# Altium footprint library PinHeaderMale.PcbLib: 7 footprints
Each footprint in its own frame and in the unit in brackets; x right, y up, seen from the top. Pads: shape width x height; smd on the part's side, far side on the other; paste and mask are expansions set on the pad; w line width, h text height; cw(c..) or ccw(c..) is an arc to the next point about the centre after c.
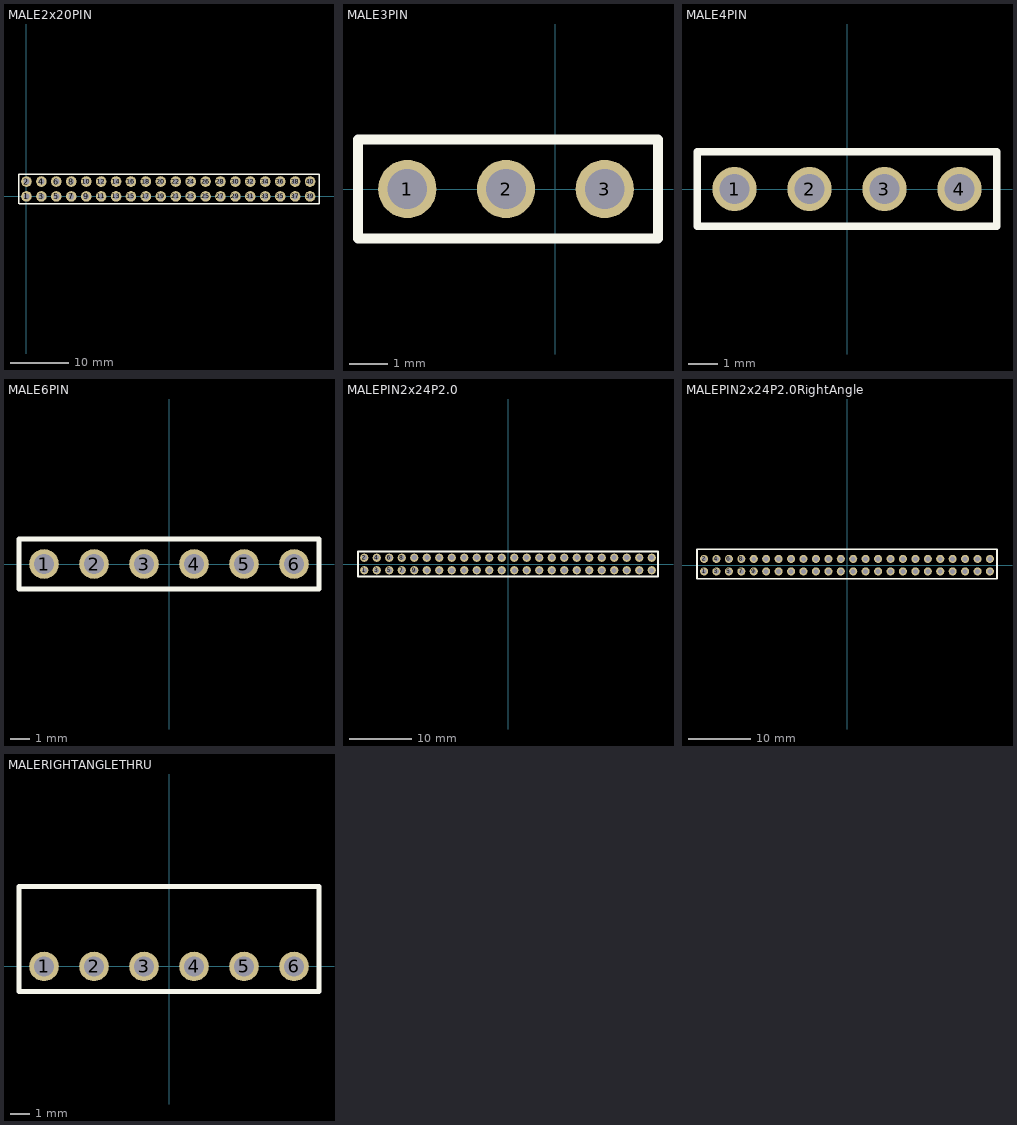
[diagram p0: the footprints below, top view; thin cyan lines are the x and y axes]

## MALE2x20PIN [mm] "Pin Header Male 40 Pins 2Rows"
pads (40):
  round 1.8 hole 1: 1(0,0) 2(0,2.54) 3(2.54,0) 4(2.54,2.54) 5(5.08,0) 6(5.08,2.54) 7(7.62,0) 8(7.62,2.54) 9(10.16,0) 10(10.16,2.54) 11(12.7,0) 12(12.7,2.54) 13(15.24,0) 14(15.24,2.54) 15(17.78,0) 16(17.78,2.54) 17(20.32,0) 18(20.32,2.54) 19(22.86,0) 20(22.86,2.54) 21(25.4,0) 22(25.4,2.54) 23(27.94,0) 24(27.94,2.54) 25(30.48,0) 26(30.48,2.54) 27(33.02,0) 28(33.02,2.54) 29(35.56,0) 30(35.56,2.54) 31(38.1,0) 32(38.1,2.54) 33(40.64,0) 34(40.64,2.54) 35(43.18,0) 36(43.18,2.54) 37(45.72,0) 38(45.72,2.54) 39(48.26,0) 40(48.26,2.54)
Top Overlay:
  lines w0.254: -1.27,-1.27 -1.27,3.8 49.784,3.8 49.784,-1.27 -1.25,-1.27
3D body: height 9, standoff -2.5, extent -1.219,-1.245 49.581,3.815

## MALE3PIN [mm] "Pin Header Male 1x3 Pitch 2.54mm"
pads (3):
  round 1.5 hole 1.02: 1(-3.81,0) 2(-1.27,0) 3(1.27,0)
Top Overlay:
  lines w0.254: -5.08,-1.27 -5.08,1.27 2.642,1.27 2.642,-1.27 -5.08,-1.27
3D body: height 8.49, standoff -2.49, extent -5.08,-1.27 0,1.27
3D body: height 8.49, standoff -2.49, extent -2.489,-1.245 2.591,1.295

## MALE4PIN [mm] "Pin Header Male 1x4 Pitch 2.54mm"
pads (4):
  round 1.5 hole 1.02: 1(-3.81,0) 2(-1.27,0) 3(1.27,0) 4(3.81,0)
Top Overlay:
  lines w0.254: -5.08,-1.27 -5.08,1.27 5.08,1.27 5.08,-1.27 -5.08,-1.27
3D body: height 8.49, standoff -2.49, extent -5.08,-1.27 0,1.27
3D body: height 8.49, standoff -2.49, extent 0,-1.27 5.08,1.27

## MALE6PIN [mm]
pads (6):
  round 1.5 hole 1.02: 1(-6.35,0) 2(-3.81,0) 3(-1.27,0) 4(1.27,0) 5(3.81,0) 6(6.35,0)
Top Overlay:
  lines w0.254: -7.62,-1.27 7.62,-1.27 7.62,1.27 -7.62,1.27 -7.62,-1.27
3D body: height 8.54, standoff -3, extent -7.62,-1.245 7.62,1.245

## MALEPIN2x24P2.0 [mm]
pads (48):
  round 1.3 hole 0.8: 1(-23,-1) 2(-23,1) 3(-21,-1) 4(-21,1) 5(-19,-1) 6(-19,1) 7(-17,-1) 8(-17,1) 9(-15,-1) 10(-15,1) 11(-13,-1) 12(-13,1) 13(-11,-1) 14(-11,1) 15(-7,-1) 16(-9,1) 17(-9,-1) 18(-7,1) 19(-5,-1) 20(-5,1) 21(-3,-1) 22(-3,1) 23(-1,-1) 24(-1,1) 25(1,-1) 26(1,1) 27(3,-1) 28(3,1) 29(5,-1) 30(5,1) 31(7,-1) 32(7,1) 33(9,-1) 34(9,1) 35(11,-1) 36(11,1) 37(13,-1) 38(13,1) 39(15,-1) 40(15,1) 41(17,-1) 42(17,1) 43(19,-1) 44(19,1) 45(21,-1) 46(21,1) 47(23,-1) 48(23,1)
Top Overlay:
  lines w0.254: -24,-2 24,-2 24,2 -24,2 -24,-2
3D body: height 5.52, standoff -1.98, extent -24,-2 24,2

## MALEPIN2x24P2.0RightAngle [mm]
pads (48):
  round 1.3 hole 0.8: 1(-23,-1) 2(-23,1) 3(-21,-1) 4(-21,1) 5(-19,-1) 6(-19,1) 7(-17,-1) 8(-17,1) 9(-15,-1) 10(-15,1) 11(-13,-1) 12(-13,1) 13(-11,-1) 14(-11,1) 15(-9,-1) 16(-9,1) 17(-7,-1) 18(-7,1) 19(-5,-1) 20(-5,1) 21(-3,-1) 22(-3,1) 23(-1,-1) 24(-1,1) 25(1,-1) 26(1,1) 27(3,-1) 28(3,1) 29(5,-1) 30(5,1) 31(7,-1) 32(7,1) 33(9,-1) 34(9,1) 35(11,-1) 36(11,1) 37(13,-1) 38(13,1) 39(15,-1) 40(15,1) 41(17,-1) 42(17,1) 43(19,-1) 44(19,1) 45(21,-1) 46(21,1) 47(23,-1) 48(23,1)
Top Overlay:
  lines w0.254: -24.13,-2.159 24.13,-2.159 24.13,2.54 -24.13,2.54 -24.13,2.286 -24.13,-2.159
3D body: height 6.11, standoff -1.99, extent -24.873,-1.167 25.127,7.493

## MALERIGHTANGLETHRU [mm]
pads (6):
  round 1.5 hole 1.02: 1(-6.35,0) 2(-3.81,0) 3(-1.27,0) 4(1.27,0) 5(3.81,0) 6(6.35,0)
Top Overlay:
  lines w0.254: -7.62,-1.27 -7.62,4.06 7.62,4.06 7.62,-1.27 -7.62,-1.27
3D body: height 2.51, standoff -3, extent -7.62,-0.254 7.62,9.876